# EAGLE library part 690367182672 (library Board-to-Board (rev18a))
WR-MM Female Connector without Latch and without Polarization, 26 Pins=>Code : Con_BTB_MM_Female_THT_St_690367182672 <http://katalog.we-online.de/media/thumbs2/eican/thb_Con_BTB_MM_Female_THT_St_69036718xx72_pf2.jpg> Details see: http://katalog.we-online.de/en/em/6903_6718_xx_72 Created 2014-06-04, Karrer Zheng 2014 (C) Würth Elektronik
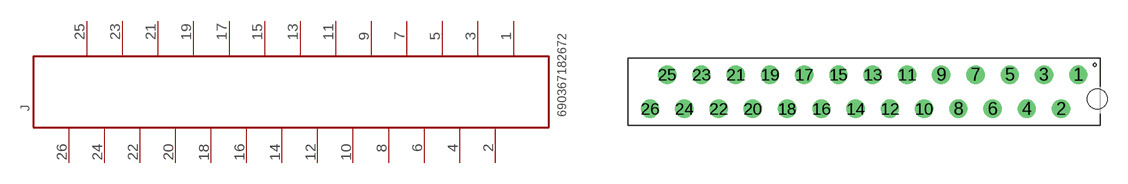
[diagram p337: symbol with the pads of 690367182672; footprint 690367182672]

Designator prefix J

## 690367182672  [690367182672]
1  26  pas
2  25  pas
3  24  pas
4  23  pas
5  22  pas
6  21  pas
7  20  pas
8  19  pas
9  18  pas
10  17  pas
11  16  pas
12  15  pas
13  14  pas
14  13  pas
15  12  pas
16  11  pas
17  10  pas
18  9  pas
19  8  pas
20  7  pas
21  6  pas
22  5  pas
23  4  pas
24  3  pas
25  2  pas
26  1  pas

## Footprint 690367182672 (pad centres in mm)
WR-MM Female Connector without Latch and without Polarization, 26 Pins
drill 0.85: 1 15.875,1.27; 2 14.605,-1.27; 3 13.335,1.27; 4 12.065,-1.27; 5 10.795,1.27; 6 9.525,-1.27; 7 8.255,1.27; 8 6.985,-1.27; 9 5.715,1.27; 10 4.445,-1.27; 11 3.175,1.27; 12 1.905,-1.27; 13 0.635,1.27; 14 -0.635,-1.27; 15 -1.905,1.27; 16 -3.175,-1.27; 17 -4.445,1.27; 18 -5.715,-1.27; 19 -6.985,1.27; 20 -8.255,-1.27; 21 -9.525,1.27; 22 -10.795,-1.27; 23 -12.065,1.27; 24 -13.335,-1.27; 25 -14.605,1.27; 26 -15.875,-1.27
hole 1.5 at 17.275,-0.53